# Altium footprint library picr22-team-owo-mainboard-lib.PcbLib: 19 footprints (part 1 of 2)
Each footprint in its own frame and in the unit in brackets; x right, y up, seen from the top. Pads: shape width x height; smd on the part's side, far side on the other; paste and mask are expansions set on the pad; w line width, h text height; cw(c..) or ccw(c..) is an arc to the next point about the centre after c.
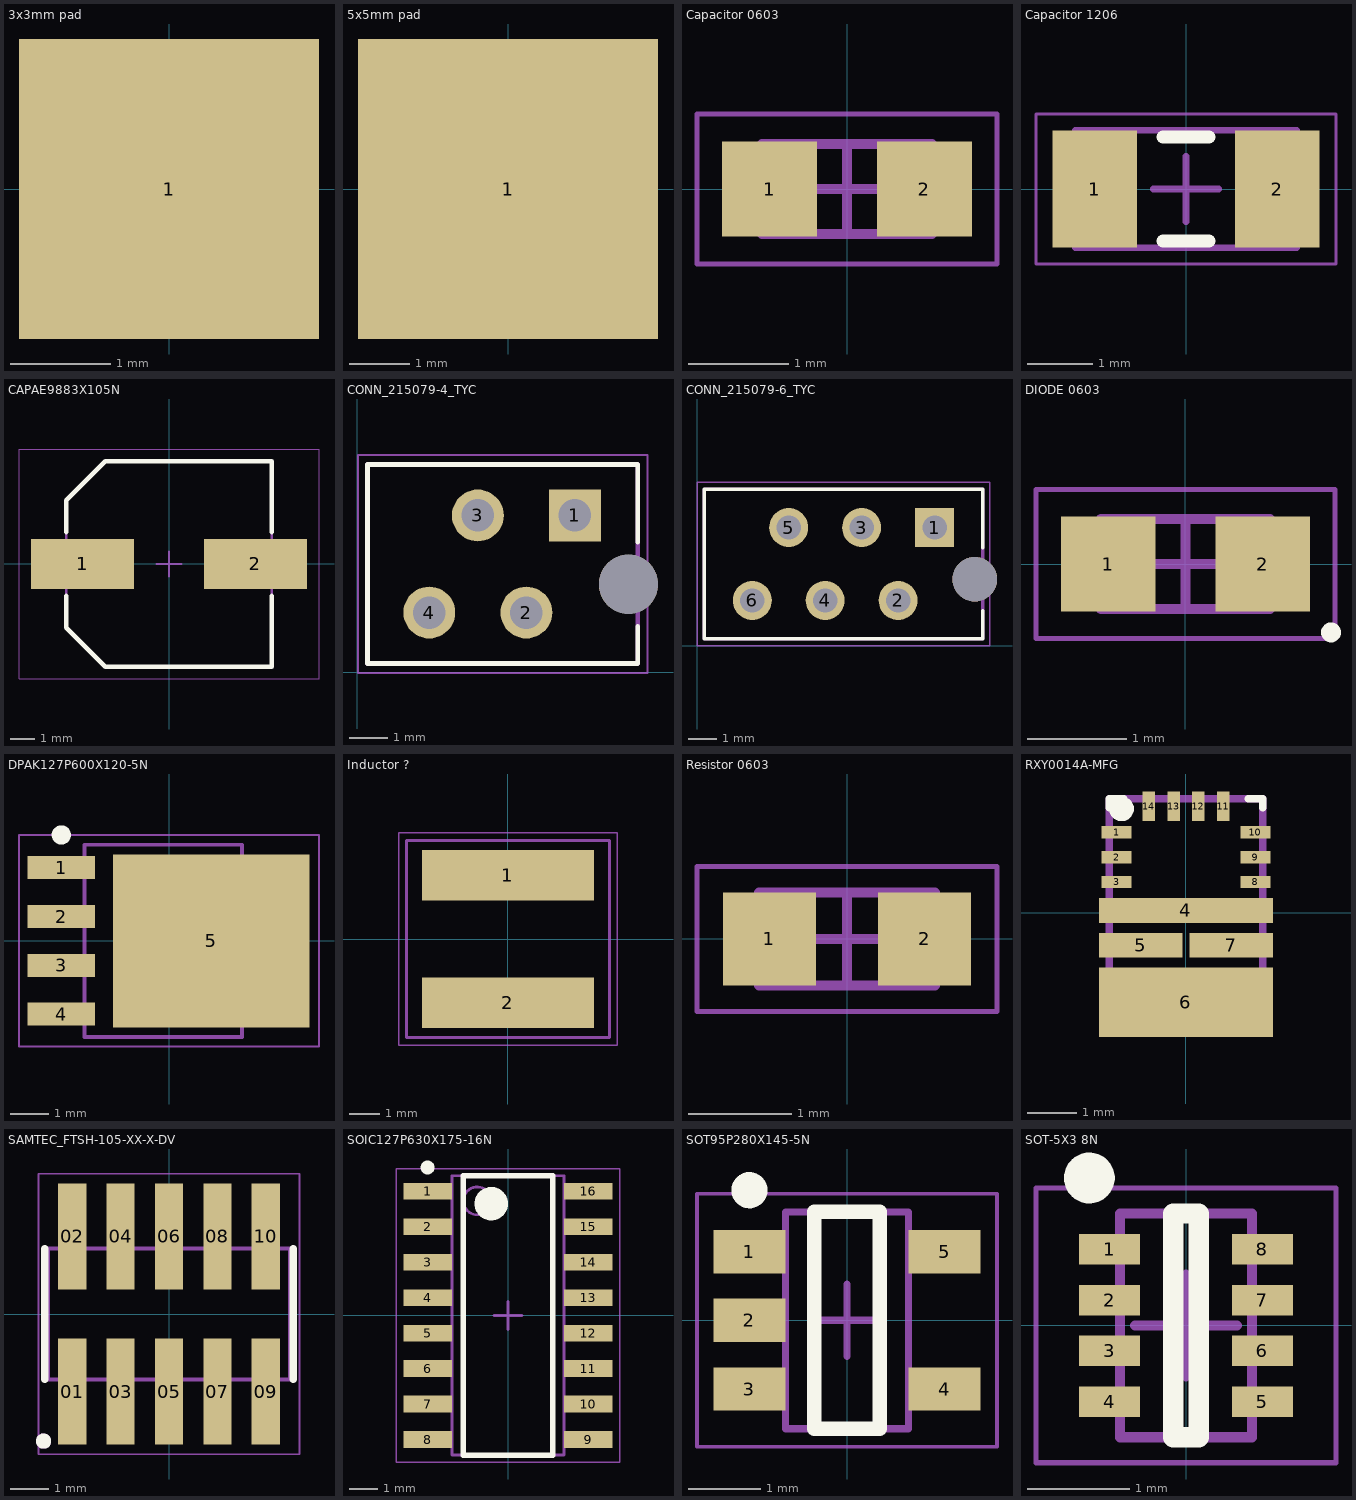
[diagram p0: the footprints below, top view; thin cyan lines are the x and y axes]

## 3x3mm pad [mm]
pads (1):
  rect 3x3 smd: 1(0,0)

## 5x5mm pad [mm]
pads (1):
  rect 5x5 smd: 1(0,0)

## Capacitor 0603 [mm] "Chip Capacitor, 2-Leads, Body 1.60x0.80mm, IPC Medium Density"
height 0.6
pads (2):
  rect 0.95x0.95 smd: 1(-0.775,0) 2(0.775,0)
Mechanical 13:
  lines w0.1: -0.85,-0.45 0.85,-0.45 0.85,0.45 -0.85,0.45 -0.85,-0.45
Mechanical 15:
  lines w0.05: -1.5,-0.75 1.5,-0.75 1.5,0.75 -1.5,0.75 -1.5,-0.75
  lines w0.1: -0.45,0 0.45,0 ; 0,-0.45 0,0.45
3D body "Capacitor 0603.step": height 0.6, standoff 0, extent -0.85,-0.45 0.85,0.45

## Capacitor 1206 [mm]
height 0.55
pads (2):
  rect 1.3x1.8 smd: 1(-1.4,0) 2(1.4,0)
Top Overlay:
  lines w0.2: -0.35,-0.8 0.35,-0.8 ; -0.35,0.8 0.35,0.8
Mechanical 13:
  lines w0.1: -1.7,-0.9 -1.7,0.9 1.7,0.9 1.7,-0.9 -1.7,-0.9
Mechanical 15:
  lines w0.05: -2.3,-1.15 -2.3,1.15 2.3,1.15 2.3,-1.15 -2.3,-1.15
  lines w0.1: -0.5,0 0.5,0 ; 0,-0.5 0,0.5
3D body: height 0.55, standoff 0, extent -1.2,-0.9 1.2,0.9
3D body: height 0.55, standoff 0, extent -1.7,-0.9 -1.2,0.9
3D body: height 0.55, standoff 0, extent 1.2,-0.9 1.7,0.9

## CAPAE9883X105N [mm] "Aluminum Electrolytic Capacitor, Body 8.30x8.30x10.50mm, IPC Medium Density"
height 10.5
pads (2):
  rect 4.25x2.05 smd: 1(-3.575,0) 2(3.575,0)
Top Overlay:
  lines w0.2: -4.25,-1.325 -4.25,-2.638 -2.638,-4.25 4.25,-4.25 4.25,-1.325 ; -4.25,1.325 -4.25,2.638 -2.638,4.25 4.25,4.25 4.25,1.325
Mechanical 13:
  lines w0.1: -4.25,-2.638 -4.25,2.638 -2.638,4.25 4.25,4.25 4.25,-4.25 -2.638,-4.25 -4.25,-2.638
Mechanical 15:
  lines w0.05: -6.2,-4.75 6.2,-4.75 6.2,4.75 -6.2,4.75 -6.2,-4.75
  lines w0.1: -0.5,0 0.5,0 ; 0,-0.5 0,0.5
3D body "CAPAE9883X105N.step": height 10.5, standoff 0, extent -4.9,-4.25 4.9,4.25

## CONN_215079-4_TYC [mm]
pads (5):
  rect 1.358x1.358 hole 0.85: 1(5.7,4.1)
  round 1.358 hole 0.85: 2(4.43,1.56) 3(3.16,4.1) 4(1.89,1.56)
  round 1.55 hole 1.55 unplated: ""(7.1,2.3)
Top Overlay:
  lines w0.127: 7.345,1.2 7.345,0.23 0.275,0.23 0.275,5.43 7.345,5.43 7.345,3.4
Mechanical 13:
  lines w0.127: 0.275,0.23 0.275,5.43 7.345,5.43 7.345,0.23 0.275,0.23
Mechanical 15:
  lines w0.05: 0.025,-0.02 0.025,5.68 7.595,5.68 7.595,-0.02 0.025,-0.02

## CONN_215079-6_TYC [mm]
pads (7):
  rect 1.358x1.358 hole 0.85: 1(8.275,4.12)
  round 1.358 hole 0.85: 2(7.005,1.58) 3(5.735,4.12) 4(4.465,1.58) 5(3.195,4.12) 6(1.925,1.58)
  round 1.55 hole 1.55 unplated: ""(9.675,2.32)
Top Overlay:
  lines w0.127: 9.95,1.22 9.95,0.25 0.25,0.25 0.25,5.45 9.95,5.45 9.95,3.42
Mechanical 13:
  lines w0.127: 0.25,0.25 0.25,5.45 9.95,5.45 9.95,0.25 0.25,0.25
Mechanical 15:
  lines w0.05: 0,0 0,5.7 10.2,5.7 10.2,0 0,0

## DIODE 0603 [mm]
height 0.6
pads (2):
  rect 0.95x0.95 smd: 1(-0.775,0) 2(0.775,0)
Top Overlay:
  circle w0.1: c1.462,-0.687 r0.05
Mechanical 13:
  lines w0.1: -0.85,-0.45 0.85,-0.45 0.85,0.45 -0.85,0.45 -0.85,-0.45
Mechanical 15:
  lines w0.05: -1.5,-0.75 1.5,-0.75 1.5,0.75 -1.5,0.75 -1.5,-0.75
  lines w0.1: -0.45,0 0.45,0 ; 0,-0.45 0,0.45
3D body "Chip2PinSM127P600-8N.step": height 0.6, standoff 0, extent -0.85,-0.45 0.85,0.45

## DPAK127P600X120-5N [mm] "TO, 5-Pads, Body 5.15x5.86mm (max), IPC Medium Density"
height 1.2
pads (5):
  rect 1.75x0.6 smd: 1(-2.8,1.905) 2(-2.8,0.635) 3(-2.8,-0.635) 4(-2.8,-1.905)
  rect 5.1x4.5 smd: 5(1.1,0)
Top Overlay:
  circle w0.25: c-2.8,2.755 r0.125
Mechanical 13:
  lines w0.1: -2.2,-2.5 -2.2,2.5 1.9,2.5 1.9,-2.5 -2.2,-2.5
Mechanical 15:
  lines w0.05: -3.9,-2.75 -3.9,2.75 3.9,2.75 3.9,-2.75 -3.9,-2.75
  lines w0.1: -0.5,0 0.5,0 ; 0,-0.5 0,0.5
3D body "DPAK127P600X120-5N.step": height 1.2, standoff 0, extent -2.85,-2.5 3.15,2.5

## Inductor ? [mm]
pads (2):
  rect 5.6x1.65 smd: 1(0,2.075) 2(0,-2.075)
Mechanical 13:
  lines w0.1: -3.3,-3.2 3.3,-3.2 3.3,3.2 -3.3,3.2 -3.3,-3.2
Mechanical 15:
  lines w0.05: -3.55,-3.45 3.55,-3.45 3.55,3.45 -3.55,3.45 -3.55,-3.45
3D body: height 5.8, standoff 0, extent -3.3,-3.2 3.3,3.2

## Resistor 0603 [mm] "Chip Resistor, 2-Leads, Body 1.60x0.80mm, IPC Medium Density"
height 0.6
pads (2):
  rect 0.9x0.9 smd: 1(-0.75,0) 2(0.75,0)
Mechanical 13:
  lines w0.1: -0.85,-0.45 0.85,-0.45 0.85,0.45 -0.85,0.45 -0.85,-0.45
Mechanical 15:
  lines w0.05: -1.45,-0.7 1.45,-0.7 1.45,0.7 -1.45,0.7 -1.45,-0.7
  lines w0.1: -0.45,0 0.45,0 ; 0,-0.45 0,0.45
3D body: height 0.6, standoff 0, extent 0.5,-0.45 0.85,0.45
3D body: height 0.6, standoff 0, extent -0.85,-0.45 -0.5,0.45
3D body: height 0.6, standoff 0, extent -0.5,-0.45 0.5,0.45

## RXY0014A-MFG [mm]
pads (14):
  rect 0.6x0.25 smd paste+0 mask-0.292: 1(-1.4,1.625) 2(-1.4,1.125) 3(-1.4,0.625) 8(1.4,0.625) 9(1.4,1.125) 10(1.4,1.625)
  rect 3.5x0.5 smd paste-1.737 mask-1.74: 4(0,0.05)
  rect 1.675x0.5 smd paste-0.825 mask-0.826: 5(-0.913,-0.65) 7(0.913,-0.65)
  rect 3.5x1.4 smd paste-1.737 mask-1.74: 6(0,-1.8)
  rect 0.25x0.6 smd paste+0 mask-0.292: 11(0.75,2.15) 12(0.25,2.15) 13(-0.25,2.15) 14(-0.75,2.15)
Top Overlay:
  circle w0.25: c-1.3,2.1 r0.125
  lines w0.15: -1.55,2.125 -1.55,2.3 -1.25,2.3 ; 1.25,2.3 1.55,2.3 1.55,2.125
Top Paste:
  region: -1.65,-1.475 -1.7,-1.425 -1.7,-1.275 -1.65,-1.225 -1.35,-1.225 -1.35,-1.15 1.35,-1.15 1.35,-1.225 1.65,-1.225 1.7,-1.275 1.7,-1.425 1.65,-1.475 1.35,-1.475 1.35,-1.55 0.875,-1.55 0.875,-2.4 0.825,-2.45 0.675,-2.45 0.625,-2.4 0.625,-1.55 0.375,-1.55 0.375,-2.4 0.325,-2.45 0.175,-2.45 0.125,-2.4 0.125,-1.55 -0.125,-1.55 -0.125,-2.4 -0.175,-2.45 -0.325,-2.45 -0.375,-2.4 -0.375,-1.55 -0.625,-1.55 -0.625,-2.4 -0.675,-2.45 -0.825,-2.45 -0.875,-2.4 -0.875,-1.55 -1.35,-1.55 -1.35,-1.475
  region: 1.65,-0.525 1.7,-0.575 1.7,-0.725 1.65,-0.775 1.35,-0.775 1.35,-0.85 0.175,-0.85 0.125,-0.8 0.125,-0.5 0.175,-0.45 1.35,-0.45 1.35,-0.525
  region: -1.65,-0.775 -1.7,-0.725 -1.7,-0.575 -1.65,-0.525 -1.35,-0.525 -1.35,-0.45 -0.175,-0.45 -0.125,-0.5 -0.125,-0.8 -0.175,-0.85 -1.35,-0.85 -1.35,-0.775
  region: 1.7,0.125 1.7,-0.025 1.65,-0.075 1.35,-0.075 1.35,-0.15 0.175,-0.15 0.125,-0.1 0.125,0.2 0.175,0.25 1.35,0.25 1.35,0.175 1.65,0.175
  region: -1.7,-0.025 -1.7,0.125 -1.65,0.175 -1.35,0.175 -1.35,0.25 -0.175,0.25 -0.125,0.2 -0.125,-0.1 -0.175,-0.15 -1.35,-0.15 -1.35,-0.075 -1.65,-0.075
Top Solder:
  drawing of 15 lines, arcs and shapes, not listed
Mechanical 13:
  lines w0.15: -1.55,-2.3 -1.55,2.3 1.55,2.3 1.55,-2.3 -1.55,-2.3
3D body "RXY0014A.stp": height 1, standoff 0, extent -1.5,-2.25 1.5,2.25
3D body: height 0.25, standoff 0, extent 0,0 0.254,0.254

## SAMTEC_FTSH-105-XX-X-DV [mm]
pads (10):
  rect 0.74x2.79 smd: 01(-2.54,-2.035) 02(-2.54,2.035) 03(-1.27,-2.035) 04(-1.27,2.035) 05(0,-2.035) 06(0,2.035) 07(1.27,-2.035) 08(1.27,2.035) 09(2.54,-2.035) 10(2.54,2.035)
Top Overlay:
  circle w0.2: c-3.29,-3.335 r0.1
  lines w0.2: -3.26,-1.715 -3.26,1.715 ; 3.26,-1.715 3.26,1.715
Mechanical 13:
  circle w0.2: c-3.29,-3.335 r0.1
  lines w0.1: -3.175,-1.715 -3.175,1.715 3.175,1.715 3.175,-1.715 -3.175,-1.715
Mechanical 15:
  lines w0.05: -3.425,-3.68 -3.425,3.68 3.425,3.68 3.425,-3.68 -3.425,-3.68
3D body "FTSH-105-01-L-DV-K.stp": height 6.11, standoff -0.01, extent -3.175,-2.921 3.175,2.921

## SOIC127P630X175-16N [mm] "SOIC, 16-Leads, Body 9.90x3.90mm, Pitch 1.27mm, IPC Medium Density"
height 1.75
pads (16):
  rect 1.75x0.6 smd: 1(-2.875,4.445) 2(-2.875,3.175) 3(-2.875,1.905) 4(-2.875,0.635) 5(-2.875,-0.635) 6(-2.875,-1.905) 7(-2.875,-3.175) 8(-2.875,-4.445) 9(2.875,-4.445) 10(2.875,-3.175) 11(2.875,-1.905) 12(2.875,-0.635) 13(2.875,0.635) 14(2.875,1.905) 15(2.875,3.175) 16(2.875,4.445)
Top Overlay:
  circle w0.25: c-2.875,5.295 r0.125
  circle w0.6: c-0.6,4 r0.3
  lines w0.2: -1.6,-5 -1.6,5 1.6,5 1.6,-5 -1.6,-5
Mechanical 13:
  circle w0.1: c-1.1,4.1 r0.5
  lines w0.1: -2,-5 -2,5 2,5 2,-5 -2,-5
Mechanical 15:
  lines w0.05: -4,-5.25 -4,5.25 4,5.25 4,-5.25 -4,-5.25
  lines w0.1: -0.5,0 0.5,0 ; 0,-0.5 0,0.5
3D body "SOIC127P630X175-16N.step": height 1.75, standoff 0, extent -3.15,-5 3.15,5

## SOT95P280X145-5N [mm] "SOT23, 5-Leads, Body 2.90x2.80mm, Pitch 0.95mm, IPC Medium Density"
height 1.45
pads (5):
  rect 1x0.6 smd: 1(-1.35,0.95) 2(-1.35,0) 3(-1.35,-0.95) 4(1.35,-0.95) 5(1.35,0.95)
Top Overlay:
  circle w0.25: c-1.35,1.8 r0.125
  lines w0.2: -0.45,-1.5 -0.45,1.5 0.45,1.5 0.45,-1.5 -0.45,-1.5
Mechanical 13:
  lines w0.1: -0.85,-1.5 0.85,-1.5 0.85,1.5 -0.85,1.5 -0.85,-1.5
Mechanical 15:
  lines w0.05: -2.075,-1.75 2.075,-1.75 2.075,1.75 -2.075,1.75 -2.075,-1.75
  lines w0.1: -0.5,0 0.5,0 ; 0,-0.5 0,0.5
3D body "SOT95P280X145-5N.step": height 1.45, standoff 0, extent -1.45,-1.5 1.45,1.5

## SOT-5X3 8N [mm] "TSSOP, 8-Leads, Body 2.10x1.20mm, Pitch 0.50mm, IPC Medium Density"
height 0.6
pads (8):
  rect 0.6x0.3 smd: 1(-0.75,0.75) 2(-0.75,0.25) 3(-0.75,-0.25) 4(-0.75,-0.75) 5(0.75,-0.75) 6(0.75,-0.25) 7(0.75,0.25) 8(0.75,0.75)
Top Overlay:
  circle w0.25: c-0.95,1.45 r0.125
  lines w0.2: -0.127,-1.1 -0.127,1.1 0.127,1.1 0.127,-1.1 -0.127,-1.1
Mechanical 13:
  lines w0.1: -0.65,-1.1 -0.65,1.1 0.65,1.1 0.65,-1.1 -0.65,-1.1
Mechanical 15:
  lines w0.05: -1.475,-1.35 -1.475,1.35 1.475,1.35 1.475,-1.35 -1.475,-1.35
  lines w0.1: -0.5,0 0.5,0 ; 0,-0.5 0,0.5
3D body "DRL0008A.stp": height 0.6, standoff 0, extent -0.8,-1.05 0.8,1.05